# Altium footprint library 1379-1.PcbLib: 1 footprints
Each footprint in its own frame and in the unit in brackets; x right, y up, seen from the top. Pads: shape width x height; smd on the part's side, far side on the other; paste and mask are expansions set on the pad; w line width, h text height; cw(c..) or ccw(c..) is an arc to the next point about the centre after c.
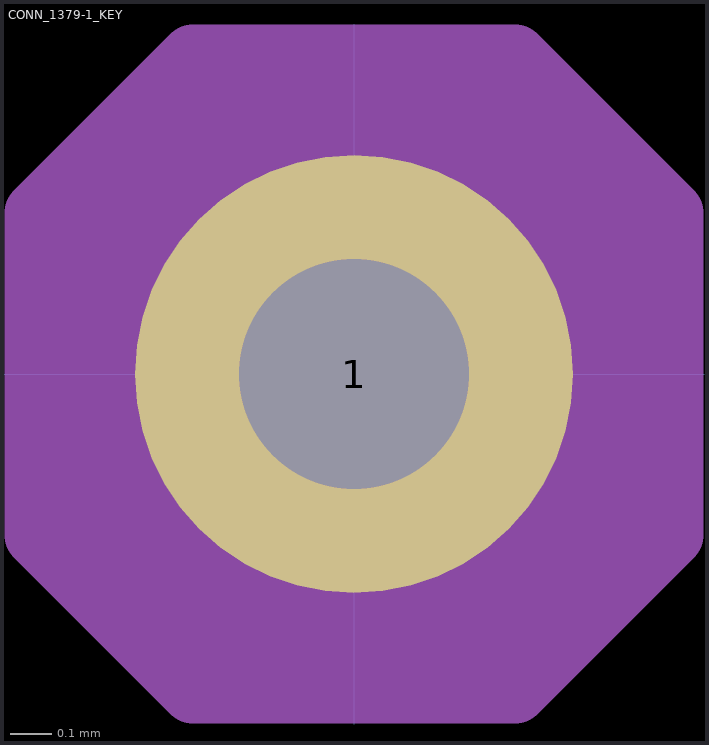
[diagram p0: the footprint, top view; thin cyan lines are the x and y axes]

## CONN_1379-1_KEY [mil]
pads (1):
  round 42 / inner round 60 / far side round 42 hole 22 paste-99999 mask+0: 1(0,0)
Mechanical 13:
  lines w0: -20.5,0 ccw(c0,0) 0,-20.5 ccw(c0,0) 20.5,0 ccw(c0,0) 0,20.5 ccw(c0,0) -20.5,0
Mechanical 15:
  region: 30.5,-15.46 30.5,15.46 15.46,30.5 -15.46,30.5 -30.5,15.46 -30.5,-15.46 -15.46,-30.5 15.46,-30.5
  lines w6: -30.5,-15.46 -15.46,-30.5 15.46,-30.5 30.5,-15.46 30.5,15.46 15.46,30.5 -15.46,30.5 -30.5,15.46 -30.5,-15.46